# Altium schematic symbol library sr.SchLib: 1 symbol
Pins are listed as number, name and electrical type; pins without a type are passive.

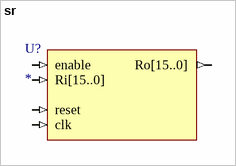
[diagram p0: symbol sr]

## sr
designator U?
pins: clk (in), enable (in), reset (in), Ri[15..0] (in), Ro[15..0] (out)